# Altium schematic symbol library TSW-104-02-S-S-RA.Schlib: 1 symbol
Pins are listed as number, name and electrical type; pins without a type are passive.

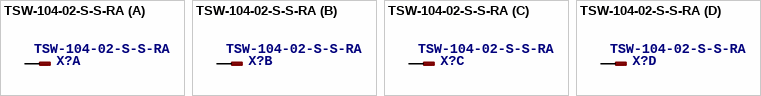
[diagram p0: symbol TSW-104-02-S-S-RA]

## TSW-104-02-S-S-RA
designator X?
OC_FARNELL: unknown; OC_NEWARK: unknown
footprint TSW-104-02-S-S-RA
part A pins: 1
part B pins: 2 1
part C pins: 3 1
part D pins: 4 1